# Altium schematic symbol library TS951ILT.SchLib: 1 symbol
Pins are listed as number, name and electrical type; pins without a type are passive.

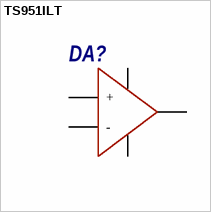
[diagram p0: symbol TS951ILT]

## TS951ILT
designator DA?
pins: 1, 2 GND, 3 +, 4 -, 5 VCC